# Altium footprint library alexsb.PCBLIB: 444 footprints (part 14 of 28)
Each footprint in its own frame and in the unit in brackets; x right, y up, seen from the top. Pads: shape width x height; smd on the part's side, far side on the other; paste and mask are expansions set on the pad; w line width, h text height; cw(c..) or ccw(c..) is an arc to the next point about the centre after c.
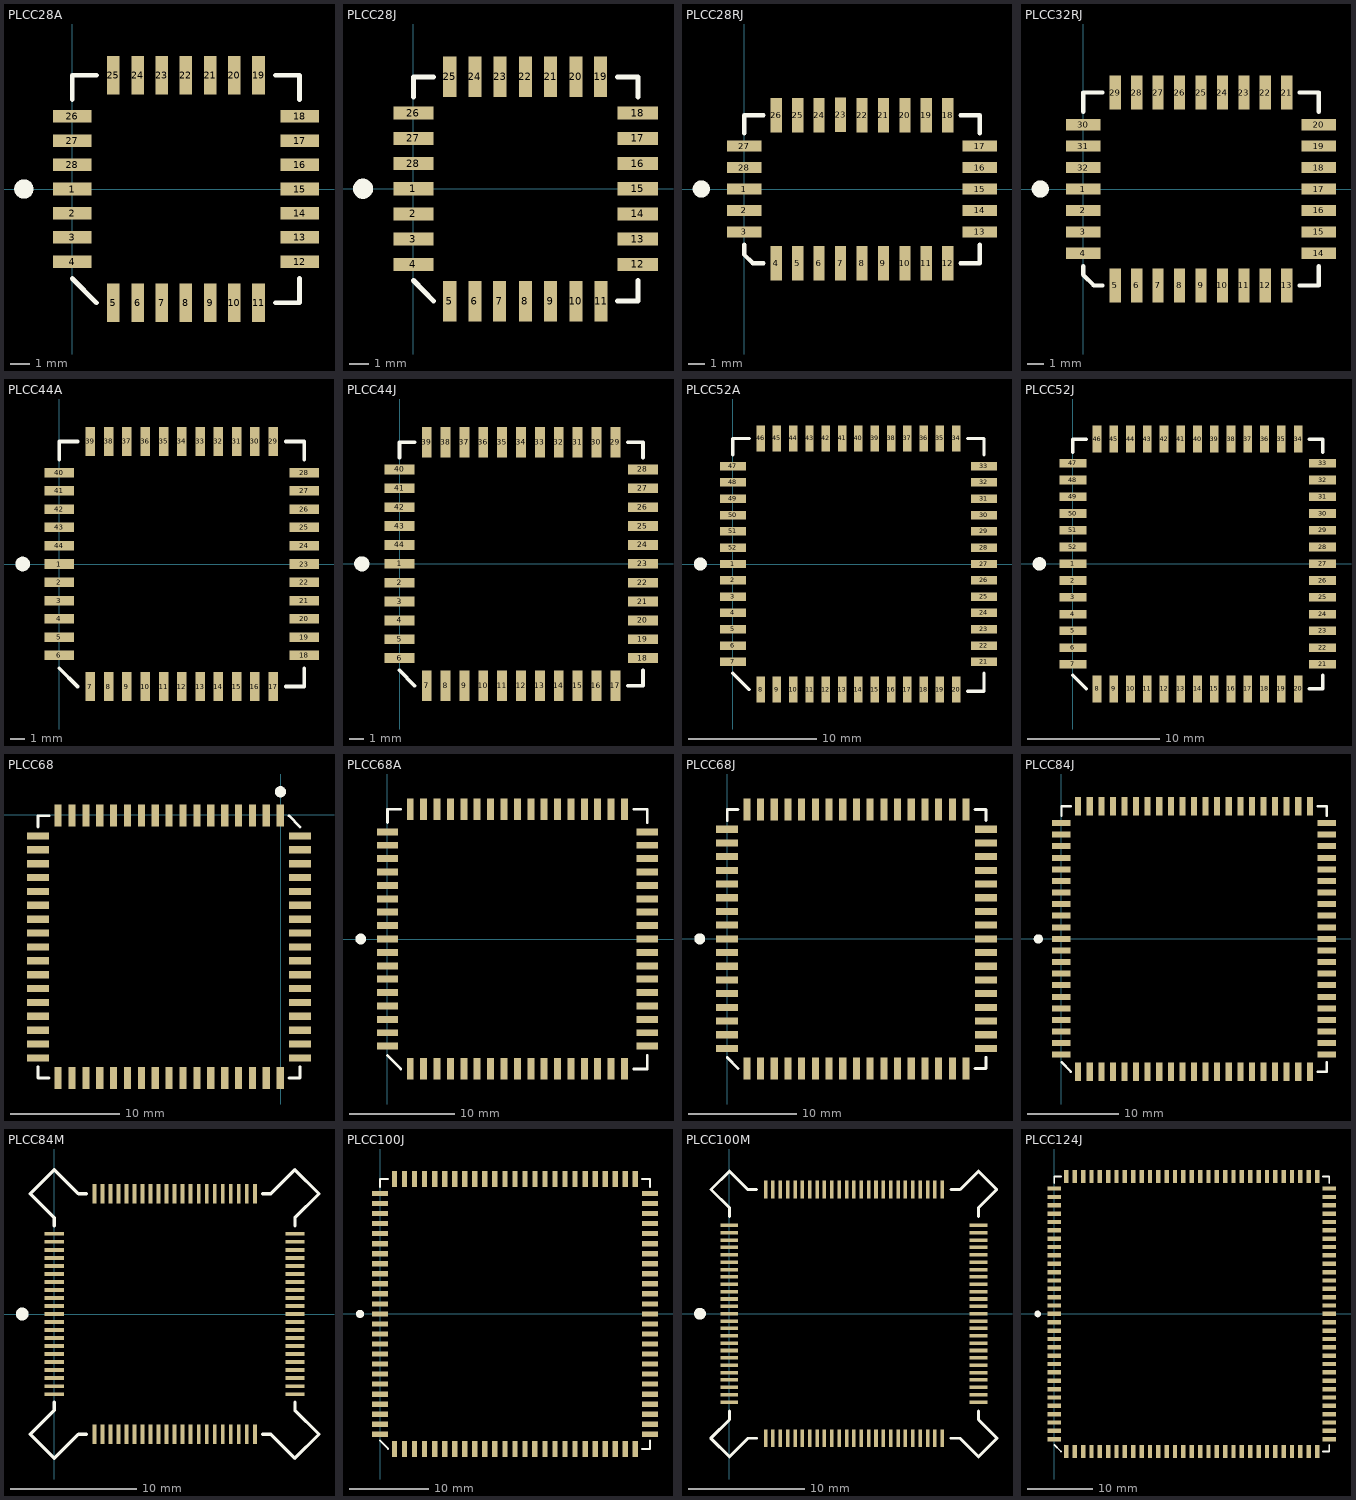
[diagram p13: the footprints below, top view; thin cyan lines are the x and y axes]

## PLCC28A [mil]
pads (28):
  rect 80x26 smd: 1(0,0) 2(0,-50) 3(0,-100) 4(0,-150) 12(470,-150) 13(470,-100) 14(470,-50) 15(470,0) 16(470,50) 17(470,100) 18(470,150) 26(0,150) 27(0,100) 28(0,50)
  rect 26x80 smd: 5(85,-235) 6(135,-235) 7(185,-235) 8(235,-235) 9(285,-235) 10(335,-235) 11(385,-235) 19(385,235) 20(335,235) 21(285,235) 22(235,235) 23(185,235) 24(135,235) 25(85,235)
Top Overlay:
  circle w20: c-100,0 r10
  lines w10: 0,-185 50,-235 ; 0,185 0,235 50,235 ; 420,-235 470,-235 470,-185 ; 420,235 470,235 470,185

## PLCC28J [mil]
pads (28):
  rect 80x26 smd: 1(0,0) 2(0,-50) 3(0,-100) 4(0,-150) 12(445,-150) 13(445,-100) 14(445,-50) 15(445,0) 16(445,50) 17(445,100) 18(445,150) 26(0,150) 27(0,100) 28(0,50)
  rect 26x80 smd: 5(72,-223) 6(122,-223) 7(171,-223) 8(222,-223) 9(272,-223) 10(322,-223) 11(372,-223) 19(371,222) 20(322,222) 21(272,222) 22(222,222) 23(172,222) 24(122,222) 25(72,222)
Top Overlay:
  circle w20: c-100,0 r10
  lines w10: 0,-182 40,-223 ; 0,182 0,222 40,222 ; 405,-223 445,-223 445,-182 ; 405,222 445,222 445,182

## PLCC28RJ [mil]
pads (28):
  rect 80x26 smd: 1(0,0) 2(0,-50) 3(0,-100) 13(550,-100) 14(550,-50) 15(550,0) 16(550,50) 17(550,100) 27(0,100) 28(0,50)
  rect 26x80 smd: 4(75,-173) 5(125,-173) 6(175,-173) 7(225,-173) 8(275,-173) 9(325,-173) 10(375,-173) 11(425,-173) 12(475,-173) 18(475,172) 19(425,172) 20(375,172) 21(325,172) 22(275,172) 23(225,173) 24(175,172) 25(125,172) 26(75,172)
Top Overlay:
  circle w20: c-100,0 r10
  lines w10: 0,-130 0,-153 20,-173 45,-173 ; 0,130 0,172 45,172 ; 505,-173 550,-173 550,-130 ; 505,172 550,172 550,130

## PLCC32RJ [mil]
pads (32):
  rect 80x26 smd: 1(0,0) 2(0,-50) 3(0,-100) 4(0,-150) 14(550,-150) 15(550,-100) 16(550,-50) 17(550,0) 18(550,50) 19(550,100) 20(550,150) 30(0,150) 31(0,100) 32(0,50)
  rect 26x80 smd: 5(75,-225) 6(125,-225) 7(175,-225) 8(225,-225) 9(275,-225) 10(325,-225) 11(375,-225) 12(425,-225) 13(475,-225) 21(475,225) 22(425,225) 23(375,225) 24(325,225) 25(275,225) 26(225,225) 27(175,225) 28(125,225) 29(75,225)
Top Overlay:
  circle w20: c-100,0 r10
  lines w10: 0,-180 0,-200 25,-225 45,-225 ; 0,180 0,225 45,225 ; 505,-225 550,-225 550,-180 ; 505,225 550,225 550,180

## PLCC44A [mil]
pads (44):
  rect 80x26 smd: 1(0,0) 2(0,-50) 3(0,-100) 4(0,-150) 5(0,-200) 6(0,-250) 18(670,-250) 19(670,-200) 20(670,-150) 21(670,-100) 22(670,-50) 23(670,0) 24(670,50) 25(670,100) 26(670,150) 27(670,200) 28(670,250) 40(0,250) 41(0,200) 42(0,150) 43(0,100) 44(0,50)
  rect 26x80 smd: 7(85,-335) 8(135,-335) 9(185,-335) 10(235,-335) 11(285,-335) 12(335,-335) 13(385,-335) 14(435,-335) 15(485,-335) 16(535,-335) 17(585,-335) 29(585,335) 30(535,335) 31(485,335) 32(435,335) 33(385,335) 34(335,335) 35(285,335) 36(235,335) 37(185,335) 38(135,335) 39(85,335)
Top Overlay:
  circle w20: c-100,0 r10
  lines w10: 0,-285 50,-335 ; 0,285 0,335 50,335 ; 620,-335 670,-335 670,-285 ; 620,335 670,335 670,285

## PLCC44J [mil]
pads (44):
  rect 80x26 smd: 1(0,0) 2(0,-50) 3(0,-100) 4(0,-150) 5(0,-200) 6(0,-250) 18(645,-250) 19(645,-200) 20(645,-150) 21(645,-100) 22(645,-50) 23(645,0) 24(645,50) 25(645,100) 26(645,150) 27(645,200) 28(645,250) 40(0,250) 41(0,200) 42(0,150) 43(0,100) 44(0,50)
  rect 26x80 smd: 7(72,-323) 8(122,-323) 9(172,-323) 10(222,-323) 11(272,-323) 12(322,-323) 13(372,-323) 14(422,-323) 15(472,-323) 16(522,-323) 17(572,-323) 29(572,322) 30(522,322) 31(472,322) 32(422,322) 33(372,322) 34(322,322) 35(272,322) 36(222,322) 37(172,322) 38(122,322) 39(72,322)
Top Overlay:
  circle w20: c-100,0 r10
  lines w10: 0,-282 40,-323 ; 0,282 0,322 40,322 ; 605,-323 645,-323 645,-282 ; 605,322 645,322 645,282

## PLCC52A [mil]
pads (52):
  rect 80x26 smd: 1(0,0) 2(0,-50) 3(0,-100) 4(0,-150) 5(0,-200) 6(0,-250) 7(0,-300) 21(770,-300) 22(770,-250) 23(770,-200) 24(770,-150) 25(770,-100) 26(770,-50) 27(770,0) 28(770,50) 29(770,100) 30(770,150) 31(770,200) 32(770,250) 33(770,300) 47(0,300) 48(0,250) 49(0,200) 50(0,150) 51(0,100) 52(0,50)
  rect 26x80 smd: 8(85,-385) 9(135,-385) 10(185,-385) 11(235,-385) 12(285,-385) 13(335,-385) 14(385,-385) 15(435,-385) 16(485,-385) 17(535,-385) 18(585,-385) 19(635,-385) 20(685,-385) 34(685,385) 35(635,385) 36(585,385) 37(535,385) 38(485,385) 39(435,385) 40(385,385) 41(335,385) 42(285,385) 43(235,385) 44(185,385) 45(135,385) 46(85,385)
Top Overlay:
  circle w20: c-100,0 r10
  lines w10: 0,-335 50,-385 ; 0,335 0,385 50,385 ; 720,-390 770,-390 770,-335 ; 720,385 770,385 770,335

## PLCC52J [mil]
pads (52):
  rect 80x26 smd: 1(0,0) 2(0,-50) 3(0,-100) 4(0,-150) 5(0,-200) 6(0,-250) 7(0,-300) 21(745,-300) 22(745,-250) 23(745,-200) 24(745,-150) 25(745,-100) 26(745,-50) 27(745,0) 28(745,50) 29(745,100) 30(745,150) 31(745,200) 32(745,250) 33(745,300) 47(0,300) 48(0,250) 49(0,200) 50(0,150) 51(0,100) 52(0,50)
  rect 26x80 smd: 8(72,-373) 9(122,-373) 10(172,-373) 11(222,-373) 12(272,-373) 13(322,-373) 14(372,-373) 15(422,-373) 16(472,-373) 17(522,-373) 18(572,-373) 19(622,-373) 20(672,-373) 34(672,372) 35(622,372) 36(572,372) 37(522,372) 38(472,372) 39(422,372) 40(372,372) 41(322,372) 42(272,372) 43(222,372) 44(172,372) 45(122,372) 46(72,372)
Top Overlay:
  circle w20: c-100,0 r10
  lines w10: 0,-332 40,-373 ; 0,332 0,372 40,372 ; 705,-373 745,-373 745,-332 ; 705,372 745,372 745,332

## PLCC68 [mil]
pads (68):
  rect 26x80 smd: 1(-3,-3) 2(-53,-3) 3(-103,-3) 4(-153,-3) 5(-203,-3) 6(-253,-3) 7(-303,-3) 8(-353,-3) 9(-403,-3) 10(-453,-3) 11(-503,-3) 12(-553,-3) 13(-603,-3) 14(-653,-3) 15(-703,-3) 16(-753,-3) 17(-803,-3) 35(-803,-948) 36(-753,-948) 37(-703,-948) 38(-653,-948) 39(-603,-948) 40(-553,-948) 41(-503,-948) 42(-453,-948) 43(-403,-948) 44(-353,-948) 45(-303,-948) 46(-253,-948) 47(-203,-948) 48(-153,-948) 49(-103,-948) 50(-53,-948) 51(-3,-948)
  rect 80x26 smd: 18(-876,-76) 19(-876,-126) 20(-876,-176) 21(-876,-226) 22(-876,-276) 23(-876,-326) 24(-876,-376) 25(-876,-426) 26(-876,-476) 27(-876,-526) 28(-876,-576) 29(-876,-626) 30(-876,-676) 31(-876,-726) 32(-876,-776) 33(-876,-826) 34(-876,-876) 52(69,-876) 53(69,-826) 54(69,-776) 55(69,-726) 56(69,-676) 57(69,-626) 58(69,-576) 59(69,-526) 60(69,-476) 61(69,-426) 62(69,-376) 63(69,-326) 64(69,-276) 65(69,-226) 66(69,-176) 67(69,-126) 68(69,-76)
Top Overlay:
  circle w20: c-2,83 r10
  lines w10: -876,-908 -876,-948 -836,-948 ; -876,-44 -876,-3 -836,-3 ; 29,-948 69,-948 69,-908 ; 29,-3 69,-44

## PLCC68A [mil]
pads (68):
  rect 80x26 smd: 1(0,0) 2(0,-50) 3(0,-100) 4(0,-150) 5(0,-200) 6(0,-250) 7(0,-300) 8(0,-350) 9(0,-400) 27(970,-400) 28(970,-350) 29(970,-300) 30(970,-250) 31(970,-200) 32(970,-150) 33(970,-100) 34(970,-50) 35(970,0) 36(970,50) 37(970,100) 38(970,150) 39(970,200) 40(970,250) 41(970,300) 42(970,350) 43(970,400) 61(0,400) 62(0,350) 63(0,300) 64(0,250) 65(0,200) 66(0,150) 67(0,100) 68(0,50)
  rect 26x80 smd: 10(85,-485) 11(135,-485) 12(185,-485) 13(235,-485) 14(285,-485) 15(335,-485) 16(385,-485) 17(435,-485) 18(485,-485) 19(535,-485) 20(585,-485) 21(635,-485) 22(685,-485) 23(735,-485) 24(785,-485) 25(835,-485) 26(885,-485) 44(885,485) 45(835,485) 46(785,485) 47(735,485) 48(685,485) 49(635,485) 50(585,485) 51(535,485) 52(485,485) 53(435,485) 54(385,485) 55(335,485) 56(285,485) 57(235,485) 58(185,485) 59(135,485) 60(85,485)
Top Overlay:
  circle w20: c-100,0 r10
  lines w10: 0,-435 50,-485 ; 0,435 0,485 50,485 ; 920,-485 970,-485 970,-435 ; 920,485 970,485 970,435

## PLCC68J [mil]
pads (68):
  rect 80x26 smd: 1(0,0) 2(0,-50) 3(0,-100) 4(0,-150) 5(0,-200) 6(0,-250) 7(0,-300) 8(0,-350) 9(0,-400) 27(945,-400) 28(945,-350) 29(945,-300) 30(945,-250) 31(945,-200) 32(945,-150) 33(945,-100) 34(945,-50) 35(945,0) 36(945,50) 37(945,100) 38(945,150) 39(945,200) 40(945,250) 41(945,300) 42(945,350) 43(945,400) 61(0,400) 62(0,350) 63(0,300) 64(0,250) 65(0,200) 66(0,150) 67(0,100) 68(0,50)
  rect 26x80 smd: 10(72,-473) 11(122,-473) 12(172,-473) 13(222,-473) 14(272,-473) 15(322,-473) 16(372,-473) 17(422,-473) 18(472,-473) 19(522,-473) 20(572,-473) 21(622,-473) 22(672,-473) 23(722,-473) 24(772,-473) 25(822,-473) 26(872,-473) 44(872,472) 45(822,472) 46(772,472) 47(722,472) 48(672,472) 49(622,472) 50(572,472) 51(522,472) 52(472,472) 53(422,472) 54(372,472) 55(322,472) 56(272,472) 57(222,472) 58(172,472) 59(122,472) 60(72,472)
Top Overlay:
  circle w20: c-100,0 r10
  lines w10: 0,-432 40,-473 ; 0,432 0,472 40,472 ; 905,-473 945,-473 945,-432 ; 905,472 945,472 945,432

## PLCC84J [mil]
pads (84):
  rect 80x26 smd: 1(0,0) 2(0,-50) 3(0,-100) 4(0,-150) 5(0,-200) 6(0,-250) 7(0,-300) 8(0,-350) 9(0,-400) 10(0,-450) 11(0,-500) 33(1145,-500) 34(1145,-450) 35(1145,-400) 36(1145,-350) 37(1145,-300) 38(1145,-250) 39(1145,-200) 40(1145,-150) 41(1145,-100) 42(1145,-50) 43(1145,0) 44(1145,50) 45(1145,100) 46(1145,150) 47(1145,200) 48(1145,250) 49(1145,300) 50(1145,350) 51(1145,400) 52(1145,450) 53(1145,500) 75(0,500) 76(0,450) 77(0,400) 78(0,350) 79(0,300) 80(0,250) 81(0,200) 82(0,150) 83(0,100) 84(0,50)
  rect 26x80 smd: 12(72,-573) 13(122,-573) 14(172,-573) 15(222,-573) 16(272,-573) 17(322,-573) 18(372,-573) 19(422,-573) 20(472,-573) 21(522,-573) 22(572,-573) 23(622,-573) 24(672,-573) 25(722,-573) 26(772,-573) 27(822,-573) 28(872,-573) 29(922,-573) 30(972,-573) 31(1022,-573) 32(1072,-573) 54(1072,572) 55(1022,572) 56(972,572) 57(922,572) 58(872,572) 59(822,572) 60(772,572) 61(722,572) 62(672,572) 63(622,572) 64(572,572) 65(522,572) 66(472,572) 67(422,572) 68(372,572) 69(322,572) 70(272,572) 71(222,572) 72(172,572) 73(122,572) 74(72,572)
Top Overlay:
  circle w20: c-100,0 r10
  lines w10: 0,-532 40,-573 ; 0,532 0,572 40,572 ; 1105,-573 1145,-573 1145,-532 ; 1105,572 1145,572 1145,532

## PLCC84M [mil]
pads (84):
  rect 60x12 smd: 1(0,0) 2(0,-25) 3(0,-50) 4(0,-75) 5(0,-100) 6(0,-125) 7(0,-150) 8(0,-175) 9(0,-200) 10(0,-225) 11(0,-250) 33(750,-250) 34(750,-225) 35(750,-200) 36(750,-175) 37(750,-150) 38(750,-125) 39(750,-100) 40(750,-75) 41(750,-50) 42(750,-25) 43(750,0) 44(750,25) 45(750,50) 46(750,75) 47(750,100) 48(750,125) 49(750,150) 50(750,175) 51(750,200) 52(750,225) 53(750,250) 75(0,250) 76(0,225) 77(0,200) 78(0,175) 79(0,150) 80(0,125) 81(0,100) 82(0,75) 83(0,50) 84(0,25)
  rect 12x60 smd: 12(125,-375) 13(150,-375) 14(175,-375) 15(200,-375) 16(225,-375) 17(250,-375) 18(275,-375) 19(300,-375) 20(325,-375) 21(350,-375) 22(375,-375) 23(400,-375) 24(425,-375) 25(450,-375) 26(475,-375) 27(500,-375) 28(525,-375) 29(550,-375) 30(575,-375) 31(600,-375) 32(625,-375) 54(625,375) 55(600,375) 56(575,375) 57(550,375) 58(525,375) 59(500,375) 60(475,375) 61(450,375) 62(425,375) 63(400,375) 64(375,375) 65(350,375) 66(325,375) 67(300,375) 68(275,375) 69(250,375) 70(225,375) 71(200,375) 72(175,375) 73(150,375) 74(125,375)
Top Overlay:
  circle w20: c-100,0 r10
  lines w10: 0,-275 0,-300 -75,-375 0,-450 75,-375 100,-375 ; 0,275 0,300 -75,375 0,450 75,375 100,375 ; 650,-375 675,-375 750,-450 825,-375 750,-300 750,-275 ; 650,375 675,375 750,450 825,375 750,300 750,275

## PLCC100J [mil]
pads (100):
  rect 80x26 smd: 1(0,0) 2(0,-50) 3(0,-100) 4(0,-150) 5(0,-200) 6(0,-250) 7(0,-300) 8(0,-350) 9(0,-400) 10(0,-450) 11(0,-500) 12(0,-550) 13(0,-600) 39(1345,-600) 40(1345,-550) 41(1345,-500) 42(1345,-450) 43(1345,-400) 44(1345,-350) 45(1345,-300) 46(1345,-250) 47(1345,-200) 48(1345,-150) 49(1345,-100) 50(1345,-50) 51(1345,0) 52(1345,50) 53(1345,100) 54(1345,150) 55(1345,200) 56(1345,250) 57(1345,300) 58(1345,350) 59(1345,400) 60(1345,450) 61(1345,500) 62(1345,550) 63(1345,600) 89(0,600) 90(0,550) 91(0,500) 92(0,450) 93(0,400) 94(0,350) 95(0,300) 96(0,250) 97(0,200) 98(0,150) 99(0,100) 100(0,50)
  rect 26x80 smd: 14(72,-673) 15(122,-673) 16(172,-673) 17(222,-673) 18(272,-673) 19(322,-673) 20(372,-673) 21(422,-673) 22(472,-673) 23(522,-673) 24(572,-673) 25(622,-673) 26(672,-673) 27(722,-673) 28(771,-673) 29(822,-673) 30(872,-673) 31(922,-673) 32(972,-673) 33(1022,-673) 34(1072,-673) 35(1122,-673) 36(1172,-673) 37(1222,-673) 38(1272,-673) 64(1272,672) 65(1222,672) 66(1172,672) 67(1122,672) 68(1072,672) 69(1022,672) 70(972,672) 71(922,672) 72(872,672) 73(822,672) 74(772,672) 75(722,672) 76(672,672) 77(622,672) 78(572,672) 79(522,672) 80(472,672) 81(422,672) 82(372,672) 83(322,672) 84(272,672) 85(222,672) 86(172,672) 87(122,672) 88(72,672)
Top Overlay:
  circle w20: c-100,0 r10
  lines w10: 0,-632 40,-673 ; 0,632 0,672 40,672 ; 1305,-673 1345,-673 1345,-632 ; 1305,672 1345,672 1345,632

## PLCC100M [mil]
pads (100):
  rect 60x12 smd: 1(0,0) 2(0,-25) 3(0,-50) 4(0,-75) 5(0,-100) 6(0,-125) 7(0,-150) 8(0,-175) 9(0,-200) 10(0,-225) 11(0,-250) 12(0,-275) 13(0,-300) 39(846,-300) 40(846,-275) 41(846,-250) 42(846,-225) 43(846,-200) 44(846,-175) 45(846,-150) 46(846,-125) 47(846,-100) 48(846,-75) 49(846,-50) 50(846,-25) 51(846,0) 52(846,25) 53(846,50) 54(846,75) 55(846,100) 56(846,125) 57(846,150) 58(846,175) 59(846,200) 60(846,225) 61(846,250) 62(846,275) 63(846,300) 89(0,300) 90(0,275) 91(0,250) 92(0,225) 93(0,200) 94(0,175) 95(0,150) 96(0,125) 97(0,100) 98(0,75) 99(0,50) 100(0,25)
  rect 12x60 smd: 14(123,-423) 15(148,-423) 16(173,-423) 17(198,-423) 18(223,-423) 19(248,-423) 20(273,-423) 21(298,-423) 22(323,-423) 23(348,-423) 24(373,-423) 25(398,-423) 26(423,-423) 27(448,-423) 28(473,-423) 29(498,-423) 30(523,-423) 31(548,-423) 32(573,-423) 33(598,-423) 34(623,-423) 35(648,-423) 36(673,-423) 37(698,-423) 38(723,-423) 64(723,422) 65(698,422) 66(673,422) 67(648,422) 68(623,422) 69(598,422) 70(573,422) 71(548,422) 72(523,422) 73(498,422) 74(473,422) 75(448,422) 76(423,422) 77(398,422) 78(373,422) 79(348,422) 80(323,422) 81(298,422) 82(273,422) 83(248,422) 84(223,422) 85(198,422) 86(173,422) 87(148,422) 88(123,422)
Top Overlay:
  circle w20: c-100,0 r10
  lines w10: 0,-330 0,-360 -63,-423 0,-486 63,-423 93,-423 ; 0,330 0,360 -62,422 0,484 62,422 92,422 ; 753,-423 783,-423 846,-486 909,-423 846,-360 846,-330 ; 753,422 783,422 ; 784,422 846,484 908,422 846,360 846,330

## PLCC124J [mil]
pads (124):
  rect 80x26 smd: 1(0,0) 2(0,-50) 3(0,-100) 4(0,-150) 5(0,-200) 6(0,-250) 7(0,-300) 8(0,-350) 9(0,-400) 10(0,-450) 11(0,-500) 12(0,-550) 13(0,-600) 14(0,-650) 15(0,-700) 16(0,-750) 48(1645,-750) 49(1645,-700) 50(1645,-650) 51(1645,-600) 52(1645,-550) 53(1645,-500) 54(1645,-450) 55(1645,-400) 56(1645,-350) 57(1645,-300) 58(1645,-250) 59(1645,-200) 60(1645,-150) 61(1645,-100) 62(1645,-50) 63(1645,0) 64(1645,50) 65(1645,100) 66(1645,150) 67(1645,200) 68(1645,250) 69(1645,300) 70(1645,350) 71(1645,400) 72(1645,450) 73(1645,500) 74(1645,550) 75(1645,600) 76(1645,650) 77(1645,700) 78(1645,750) 110(0,750) 111(0,700) 112(0,650) 113(0,600) 114(0,550) 115(0,500) 116(0,450) 117(0,400) 118(0,350) 119(0,300) 120(0,250) 121(0,200) 122(0,150) 123(0,100) 124(0,50)
  rect 26x80 smd: 17(72,-823) 18(122,-823) 19(173,-823) 20(222,-823) 21(272,-823) 22(322,-823) 23(372,-823) 24(422,-823) 25(472,-823) 26(522,-823) 27(572,-823) 28(622,-823) 29(672,-823) 30(722,-823) 31(772,-823) 32(822,-823) 33(872,-823) 34(922,-823) 35(972,-823) 36(1022,-823) 37(1072,-823) 38(1122,-823) 39(1172,-823) 40(1222,-823) 41(1272,-823) 42(1322,-823) 43(1372,-823) 44(1422,-823) 45(1472,-823) 46(1522,-823) 47(1572,-823) 79(1572,822) 80(1522,822) 81(1472,822) 82(1422,822) 83(1372,822) 84(1322,822) 85(1272,822) 86(1222,822) 87(1172,822) 88(1122,822) 89(1072,822) 90(1022,822) 91(972,822) 92(922,822) 93(872,822) 94(822,822) 95(772,822) 96(722,822) 97(672,822) 98(622,822) 99(572,822) 100(522,822) 101(472,822) 102(422,822) 103(372,822) 104(322,822) 105(272,822) 106(222,822) 107(172,822) 108(122,822) 109(72,822)
Top Overlay:
  circle w20: c-100,0 r10
  lines w10: 0,-782 40,-823 ; 0,782 0,822 40,822 ; 1605,-823 1645,-823 1645,-782 ; 1605,822 1645,822 1645,782